# Altium footprint library L-KLS5-CR2032-03.PcbLib: 1 footprints
Each footprint in its own frame and in the unit in brackets; x right, y up, seen from the top. Pads: shape width x height; smd on the part's side, far side on the other; paste and mask are expansions set on the pad; w line width, h text height; cw(c..) or ccw(c..) is an arc to the next point about the centre after c.
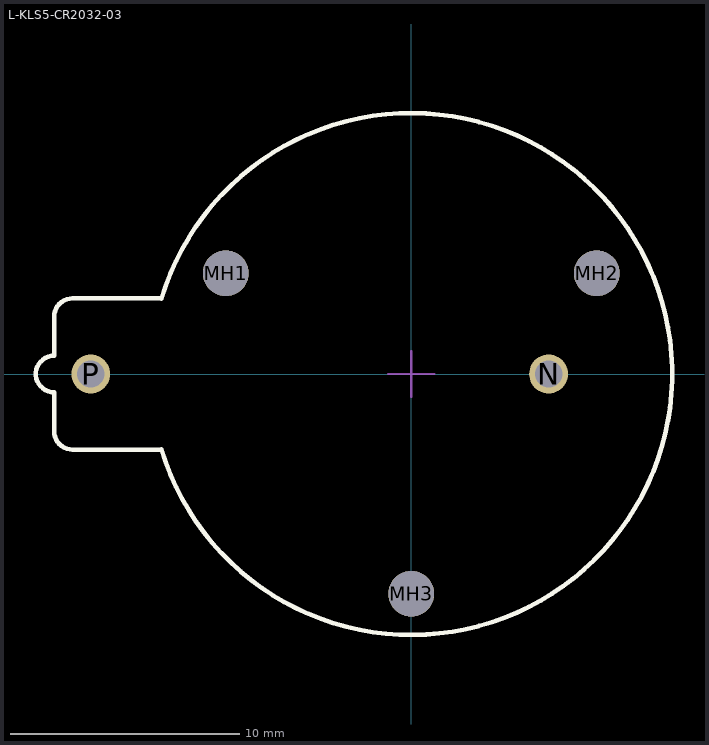
[diagram p0: the footprint, top view; thin cyan lines are the x and y axes]

## L-KLS5-CR2032-03 [mm] "L-KLS5-CR2032-03, Держатель батареи CR2032"
pads (5):
  round 2 hole 2 unplated: MH1(-8.1,4.4) MH2(8.1,4.4) MH3(0,-9.6)
  round 1.7 hole 1.2 mask+0.1: N(6,0)
  round 1.7 hole 1.2: P(-14,0)
Top Overlay:
  lines w0.2: -10.912,-3.3 ccw(c-10.912,-3.3) -10.912,-3.3 ; -10.912,-3.3 ccw(c0,0) -10.912,3.3 ; -10.912,-3.3 -14.8,-3.3 cw(c-14.8,-2.5) -15.6,-2.5 -15.6,-0.8 cw(c-15.6,0) -15.6,0.8 -15.6,2.5 cw(c-14.8,2.5) -14.8,3.3 -10.912,3.3 ; -10.912,3.3 ccw(c-10.912,3.3) -10.912,3.3
Top Component Outline:
  lines w0.1: -10.912,-3.3 ccw(c-10.912,-3.3) -10.912,-3.3 ; -10.912,-3.3 ccw(c0,0) -10.912,3.3 ; -10.912,-3.3 -14.8,-3.3 cw(c-14.8,-2.5) -15.6,-2.5 -15.6,-0.8 cw(c-15.6,0) -15.6,0.8 -15.6,2.5 cw(c-14.8,2.5) -14.8,3.3 -10.912,3.3 ; -10.912,3.3 ccw(c-10.912,3.3) -10.912,3.3
Top 3D Body:
  lines w0.1: -10.912,-3.3 ccw(c-10.912,-3.3) -10.912,-3.3 ; -10.912,-3.3 ccw(c0,0) -10.912,3.3 ; -10.912,-3.3 -14.8,-3.3 cw(c-14.8,-2.5) -15.6,-2.5 -15.6,-0.8 cw(c-15.6,0) -15.6,0.8 -15.6,2.5 cw(c-14.8,2.5) -14.8,3.3 -10.912,3.3 ; -10.912,3.3 ccw(c-10.912,3.3) -10.912,3.3
Top Courtyard:
  lines w0.1: -1,0 1,0 ; 0,-1 0,1
3D body "79528211 (rev1).stp": height 8.5, standoff -3.3, extent -16.4,-11.4 11.4,11.4